# Altium schematic symbol library XC6206.SCHLIB: 1 symbol
Pins are listed as number, name and electrical type; pins without a type are passive.

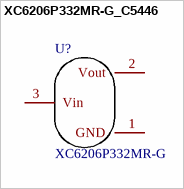
[diagram p0: symbol XC6206P332MR-G_C5446]

## XC6206P332MR-G_C5446
designator U?, comment XC6206P332MR-G
Manufacturer: TOREX(特瑞仕); Device: XC6206P332MR-G_C5446; Add into BOM: yes; Output Type: 固定; Maximum Input Voltage: 6V; Output Voltage: 3.3V; MAX Output Current: 200mA; Dropout Voltage: 680mV@(100mA); Output Polarity: 正极; Number of Outputs: 1; Symbol: XC6206P332MR; LCSC Part Name: 输入6V 输出3.3V 200mA; Supplier Part: C5446; Manufacturer Part: XC6206P332MR-G; Supplier Footprint: SOT-23-3L; JLCPCB Part Class: 基础库; Datasheet: https://atta.szlcsc.com/upload/public/pdf/source/20130823/1457706639850.pdf; Supplier: LCSC; Convert to PCB: yes; Power Supply Rejection Ratio (PSRR): -; Name: XC6206P332MR-G
footprint SOT-23-3_L2.9-W1.6-P1.90-LS2.8-BR
pins: 1 GND, 2 Vout, 3 Vin